# EAGLE library part K5V_SWITCH (library NewSDR)
ITT Right Angle Lighted THT Tact Switch
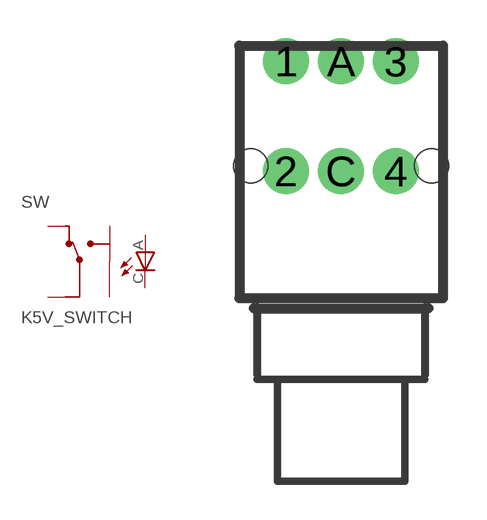
[diagram p74: symbol with the pads of K5V_SWITCH; footprint K5V_SWITCH]

Designator prefix SW

## K5V_SWITCH  [K5V_SWITCH]
1  1
2  2
3  3
4  4
A  A  pas
C  C  pas

## Footprint K5V_SWITCH (pad centres in mm)
ITT Right Angle Lighted THT Tact Switch - PCB Mount
drill 0.813 pad 1.803: 1 -2.159,4.115; 2 -2.159,-0.203; 3 2.159,4.115; 4 2.159,-0.203; A 0,4.115; C 0,-0.203
hole 1.346 at -3.556,0
hole 1.346 at 3.556,0